# EAGLE library part LM4881 (library F030NG)
LM4881 Dual 200 mW Headphone Amplifier with Shutdown Mode
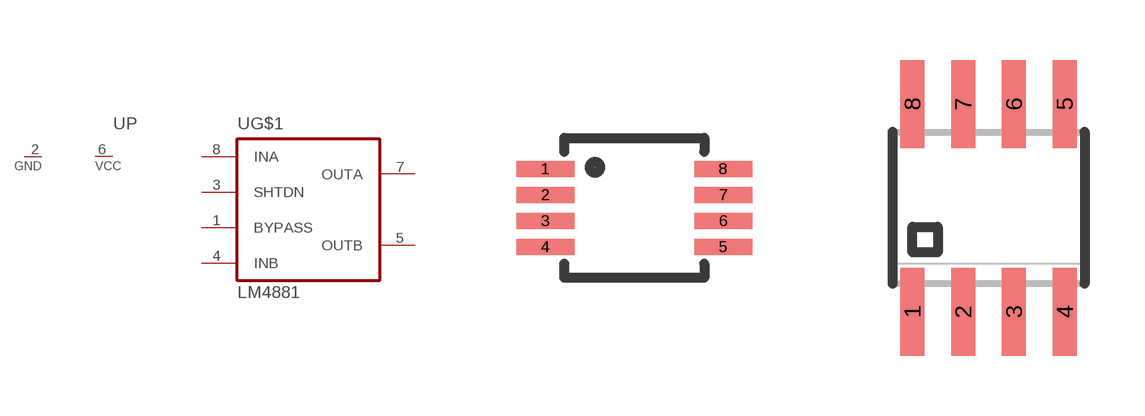
[diagram p61: symbol with the pads of MSOP-8; footprints MSOP-8, SO08]

Designator prefix U; gates G$1=LM4881 P=1VCC_1GND

## LM4881-NOPB  [MSOP-8]
1  G$1:BYPASS  pas
2  P:GND  pwr
3  G$1:SHTDN  pas
4  G$1:INB  in
5  G$1:OUTB  out
6  P:VCC  pwr
7  G$1:OUTA  out
8  G$1:INA  in

## LM4881-SOIC  [SO08]
1  G$1:OUTA  out
2  G$1:INA  in
3  G$1:BYPASS  pas
4  P:GND  pwr
5  G$1:SHTDN  pas
6  G$1:INB  in
7  G$1:OUTB  out
8  P:VCC  pwr

## LM4881-VSOP  [VSSOP08]
Pads as for MSOP-8

## Footprint MSOP-8 (pad centres in mm)
smd 1.45 x 0.4: 1 -2.225,0.975; 2 -2.225,0.325; 3 -2.225,-0.325; 4 -2.225,-0.975; 5 2.225,-0.975; 6 2.225,-0.325; 7 2.225,0.325; 8 2.225,0.975

## Footprint SO08 (pad centres in mm)
SMALL OUTLINE INTEGRATED CIRCUIT body 3.9 mm/JEDEC MS-012AA
smd 0.6 x 2.2: 1 -1.905,-2.6; 2 -0.635,-2.6; 3 0.635,-2.6; 4 1.905,-2.6; 5 1.905,2.6; 6 0.635,2.6; 7 -0.635,2.6; 8 -1.905,2.6

## Footprint VSSOP08 (pad centres in mm)
Thin Shrink Small Outline Plastic 16 MAX3223-MAX3243.pdf
smd 0.4 x 1.45: 1 -0.975,-2.2; 2 -0.325,-2.2; 3 0.325,-2.2; 4 0.975,-2.2; 5 0.975,2.2; 6 0.325,2.2; 7 -0.325,2.2; 8 -0.975,2.2